# Altium integrated library PCIC.IntLib: 47 symbols
Pins are listed as number, name and electrical type; pins without a type are passive.

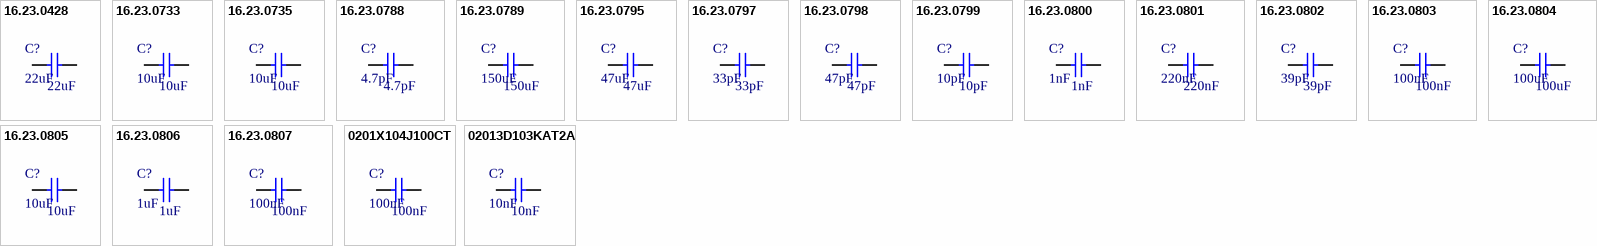
[diagram p0: symbols 16.23.0428 to 02013D103KAT2A]

## 16.23.0428
designator C?, comment 22uF
CAPACITOR CERAMICO MULTICAMADAS 22uF 16V X5R 20% SMD 0805; Category: Multilayer Ceramic Capacitors; Price: 1= 10= 100= 1000= (USD); Library Ref: Capacitor; Package / Case: 0805 (2012 mm); Size / Dimension: L x  W x  H; Tolerance: 20%; Voltage - Rated: 16V; ESR: -; Dieletric: X5R; ComponentLink1Description: Datasheet; ComponentLink2Description: Mouser Link; Value: 22uF
footprint C0805
pins: 1, 2

## 16.23.0733
designator C?, comment 10uF
CAPACITOR CERAMICO MULTICAMADAS 10uF 25V X5R 20% SMD 0603; Category: Multilayer Ceramic Capacitors; Price: 1= 10= 100= 1000= (USD); Library Ref: Capacitor; Package / Case: 0603 (1608 mm); Size / Dimension: L x  W x  H; Tolerance: 20%; Voltage - Rated: 25V; ESR: -; Dieletric: X5R; ComponentLink1Description: Datasheet; ComponentLink2Description: Mouser Link; Value: 10uF
footprint C0603
pins: 1, 2

## 16.23.0735
designator C?, comment 10uF
CAPACITOR CERAMICO MULTICAMADAS 10uF 25V X5R 10% SMD 0805; Category: Multilayer Ceramic Capacitors; Price: 1= 10= 100= 1000= (USD); Library Ref: Capacitor; Package / Case: 0805 (2012 mm); Size / Dimension: L x  W x  H; Tolerance: 10%; Voltage - Rated: 25V; ESR: -; Dieletric: X5R; ComponentLink1Description: Datasheet; ComponentLink2Description: Mouser Link; Value: 10uF
footprint C0805
pins: 1, 2

## 16.23.0788
designator C?, comment 4.7pF
CAPACITOR CERAMICO MULTICAMADA 4.7PF 50V C0G/NP0 0402; Category: Multilayer Ceramic Capacitors; Price: 1= 10= 100= 1000= (USD); Library Ref: Capacitor; Package / Case: 0402 (1005 mm); Size / Dimension: L x  W x  H; Tolerance: -; Voltage - Rated: 50V; ESR: -; Dieletric: C0G/NP0; ComponentLink1Description: Datasheet; ComponentLink2Description: Mouser Link; Value: 4.7pF
footprint C0402
pins: 1, 2

## 16.23.0789
designator C?, comment 150uF
CAPACITOR CERAMICO 150uF 20% 6.3V X5R SMD 1206; Category: Ceramic Capacitor; Price: 1= 10= 100= 1000= (USD); Library Ref: Capacitor; Package / Case: 1206 (3216 mm); Size / Dimension: L x  W x  H; Tolerance: 20%; Voltage - Rated: 6.3V; ESR: -; Dieletric: X5R; ComponentLink1Description: Datasheet; ComponentLink2Description: Mouser Link; Value: 150uF
footprint C1206
pins: 1, 2

## 16.23.0795
designator C?, comment 47uF
CAPACITOR CERAMICO 47uF 6.3V X5R 10% SMD 1206; Category: Ceramic Capacitor; Price: 1= 10= 100= 1000= (USD); Library Ref: Capacitor; Package / Case: 1206 (3216 mm); Size / Dimension: L x  W x  H; Tolerance: 10%; Voltage - Rated: 6.3V; ESR: -; Dieletric: X5R; ComponentLink1Description: Datasheet; ComponentLink2Description: Mouser Link; Value: 47uF
footprint C1206
pins: 1, 2

## 16.23.0797
designator C?, comment 33pF
CAPACITOR CERAMICO 33pF 10V 5% C0G SMD 0201; Category: Ceramic Capacitor; Price: 1= 10= 100= 1000= (USD); Library Ref: Capacitor; Package / Case: 0201 (0603 mm); Size / Dimension: L x  W x  H; Tolerance: 5%; Voltage - Rated: 10V; ESR: -; Dieletric: C0G; ComponentLink1Description: Datasheet; ComponentLink2Description: Mouser Link; Value: 33pF
footprint C0201
pins: 1, 2

## 16.23.0798
designator C?, comment 47pF
CAPACITOR CERAMICO 47pF 10V 5% C0G SMD 0201; Category: Ceramic Capacitor; Price: 1= 10= 100= 1000= (USD); Library Ref: Capacitor; Package / Case: 0201 (0603 mm); Size / Dimension: L x  W x  H; Tolerance: 5%; Voltage - Rated: 10V; ESR: -; Dieletric: C0G; ComponentLink1Description: Datasheet; ComponentLink2Description: Mouser Link; Value: 47pF
footprint C0201
pins: 1, 2

## 16.23.0799
designator C?, comment 10pF
CAPACITOR CERAMICO 10pF 25V 5% C0G SMD 0201; Category: Ceramic Capacitor; Price: 1= 10= 100= 1000= (USD); Library Ref: Capacitor; Package / Case: 0201 (0603 mm); Size / Dimension: L x  W x  H; Tolerance: 5%; Voltage - Rated: 25V; ESR: -; Dieletric: C0G; ComponentLink1Description: Datasheet; ComponentLink2Description: Mouser Link; Value: 10pF
footprint C0201
pins: 1, 2

## 16.23.0800
designator C?, comment 1nF
CAPACITOR CERAMICO 1nF 25V 5% X7R SMD 0201; Category: Ceramic Capacitor; Price: 1= 10= 100= 1000= (USD); Library Ref: Capacitor; Package / Case: 0201 (0603 mm); Size / Dimension: L x  W x  H; Tolerance: 5%; Voltage - Rated: 25V; ESR: -; Dieletric: X7R; ComponentLink1Description: Datasheet; ComponentLink2Description: Mouser Link; Value: 1nF
footprint C0201
pins: 1, 2

## 16.23.0801
designator C?, comment 220nF
CAPACITOR CERAMICO 220nF 16V 10% X5R SMD 0201; Category: Ceramic Capacitor; Price: 1= 10= 100= 1000= (USD); Library Ref: Capacitor; Package / Case: 0201 (0603 mm); Size / Dimension: L x  W x  H; Tolerance: 10%; Voltage - Rated: 16V; ESR: -; Dieletric: X5R; ComponentLink1Description: Datasheet; ComponentLink2Description: Mouser Link; Value: 220nF
footprint C0201
pins: 1, 2

## 16.23.0802
designator C?, comment 39pF
CAPACITOR CERAMICO 39pF 100V 5% C0G SMD 0201; Category: Ceramic Capacitor; Price: 1= 10= 100= 1000= (USD); Library Ref: Capacitor; Package / Case: 0201 (0603 mm); Size / Dimension: L x  W x  H; Tolerance: 5%; Voltage - Rated: 100V; ESR: -; Dieletric: C0G; ComponentLink1Description: Datasheet; ComponentLink2Description: Mouser Link; Value: 39pF
footprint C0201
pins: 1, 2

## 16.23.0803
designator C?, comment 100nF
CAPACITOR CERAMICO 100nF 16V 10% X5R SMD 0201; Category: Ceramic Capacitor; Price: 1= 10= 100= 1000= (USD); Library Ref: Capacitor; Package / Case: 0201 (0603 mm); Size / Dimension: L x  W x  H; Tolerance: 10%; Voltage - Rated: 16V; ESR: -; Dieletric: X5R; ComponentLink1Description: Datasheet; ComponentLink2Description: Mouser Link; Value: 100nF
footprint C0201
pins: 1, 2

## 16.23.0804
designator C?, comment 100uF
CAPACITOR CERAMICO 100uF 6.3V 10% X5R SMD 1206; Category: Ceramic Capacitor; Price: 1= 10= 100= 1000= (USD); Library Ref: Capacitor; Package / Case: 1206 (3216 mm); Size / Dimension: L x  W x  H; Tolerance: 10%; Voltage - Rated: 6.3V; ESR: -; Dieletric: X5R; ComponentLink1Description: Datasheet; ComponentLink2Description: Mouser Link; Value: 100uF
footprint C1206
pins: 1, 2

## 16.23.0805
designator C?, comment 10uF
CAPACITOR CERAMICO MULTICAMADAS 10uF 10V X5R 10% SMD 0603; Category: Multilayer Ceramic Capacitors; Price: 1= 10= 100= 1000= (USD); Library Ref: Capacitor; Package / Case: 0603 (1608 mm); Size / Dimension: L x  W x  H; Tolerance: 10%; Voltage - Rated: 10V; ESR: -; Dieletric: X5R; ComponentLink1Description: Datasheet; ComponentLink2Description: Mouser Link; Value: 10uF
footprint C0603
pins: 1, 2

## 16.23.0806
designator C?, comment 1uF
CAPACITOR CERAMICO MULTICAMADAS 1uF 10V X5R 20% SMD 0201; Category: Multilayer Ceramic Capacitors; Price: 1= 10= 100= 1000= (USD); Library Ref: Capacitor; Package / Case: 0201 (0603 mm); Size / Dimension: L x  W x  H; Tolerance: -; Voltage - Rated: 10V; ESR: -; Dieletric: X5R; ComponentLink1Description: Datasheet; ComponentLink2Description: Mouser Link; Value: 1uF
footprint C0201
pins: 1, 2

## 16.23.0807
designator C?, comment 100nF
CAPACITOR CERAMICO MULTICAMADAS 100nF 50V X7R 10% SMD 0402; Category: Multilayer Ceramic Capacitors; Price: 1= 10= 100= 1000= (USD); Library Ref: Capacitor; Package / Case: 0402 (1005 mm); Size / Dimension: L x  W x  H; Tolerance: 10%; Voltage - Rated: 50V; ESR: -; Dieletric: X7R; ComponentLink1Description: Datasheet; ComponentLink2Description: Mouser Link; Value: 100nF
footprint C0402
pins: 1, 2

## 0201X104J100CT
designator C?, comment 100nF
CAPACITOR CERAMICO MULTICAMADAS 100nF 10V 5% X5R SMD 0201; Manufacturer: Walsin; Part Number: 0201X104J100CT; Library Control - Checked Footprint: Yes; Library Control - Last Project that Used: SIBB; Library Control - Person that Checked Footprint: Stéfany; Supplier 1: Mouser; Category: Multilayer Ceramic Capacitors; Price: 1=0.11 10=0.042 100=0.019 1000=0.01 (USD); Library Ref: Capacitor; Operating Temperature: -55 C ~ 85 C; Package / Case: 0201 (0603 mm); Size / Dimension: 0.6 mm L x 0.3 mm W x 0.3 mm H; Tolerance: 5%; Voltage - Rated: 10V; ESR: -; Dieletric: X5R; Library Control - Checked Schematic: Yes; Library Control - Last Update: 14/07/2022 - 17:13; Library Control - Person that Checked Schematic: Stéfany; Library Control - Person that did the Last Update Footprint: Stéfany; Library Control - Person that did the Last Update Schematic: Stéfany; ComponentLink1Description: Datasheet; ComponentLink1URL: https://www.mouser.com/datasheet/2/210/WTC_MLCC_General_Purpose-1534899.pdf; ComponentLink2Description: Mouser Link; ComponentLink2URL: https://www.mouser.com/ProductDetail/Walsin/0201X104J100CT?qs=u16ybLDytRbh6baQ73s%252ByQ%3D%3D; Value: 100nF
footprint C0201
pins: 1, 2

## 02013D103KAT2A
designator C?, comment 10nF
CAPACITOR CERAMICO MULTICAMADAS 10nF 25V 10% X5R SMD 0201; Manufacturer: Kyocera AVX; Part Number: 02013D103KAT2A; Library Control - Checked Footprint: Yes; Library Control - Last Project that Used: SIBB; Library Control - Person that Checked Footprint: Stéfany; Supplier 1: Mouser; Category: Multilayer Ceramic Capacitors; Price: 1=0.10 10=0.038 100=0.017 1000=0.01 (USD); Library Ref: Capacitor; Operating Temperature: -55 C ~ +85 C; Package / Case: 0201 (0603 mm); Size / Dimension: 0.6 mm L x 0.3 mm W x 0.3 mm H; Tolerance: 10%; Voltage - Rated: 25V; ESR: -; Dieletric: X5R; Library Control - Checked Schematic: Yes; Library Control - Last Update: 14/07/2022 - 21:33; Library Control - Person that Checked Schematic: Stéfany; Library Control - Person that did the Last Update Footprint: Stéfany; Library Control - Person that did the Last Update Schematic: Stéfany; ComponentLink1Description: Datasheet; ComponentLink1URL: https://www.mouser.com/datasheet/2/40/AVX_cx5r_776519-1853698.pdf; ComponentLink2Description: Mouser Link; ComponentLink2URL: https://www.mouser.com/ProductDetail/Kyocera-AVX/02013D103KAT2A?qs=%252BdQmOuGyFcGMM%2FJpFHBLEw%3D%3D; Value: 10nF
footprint C0201
pins: 1, 2


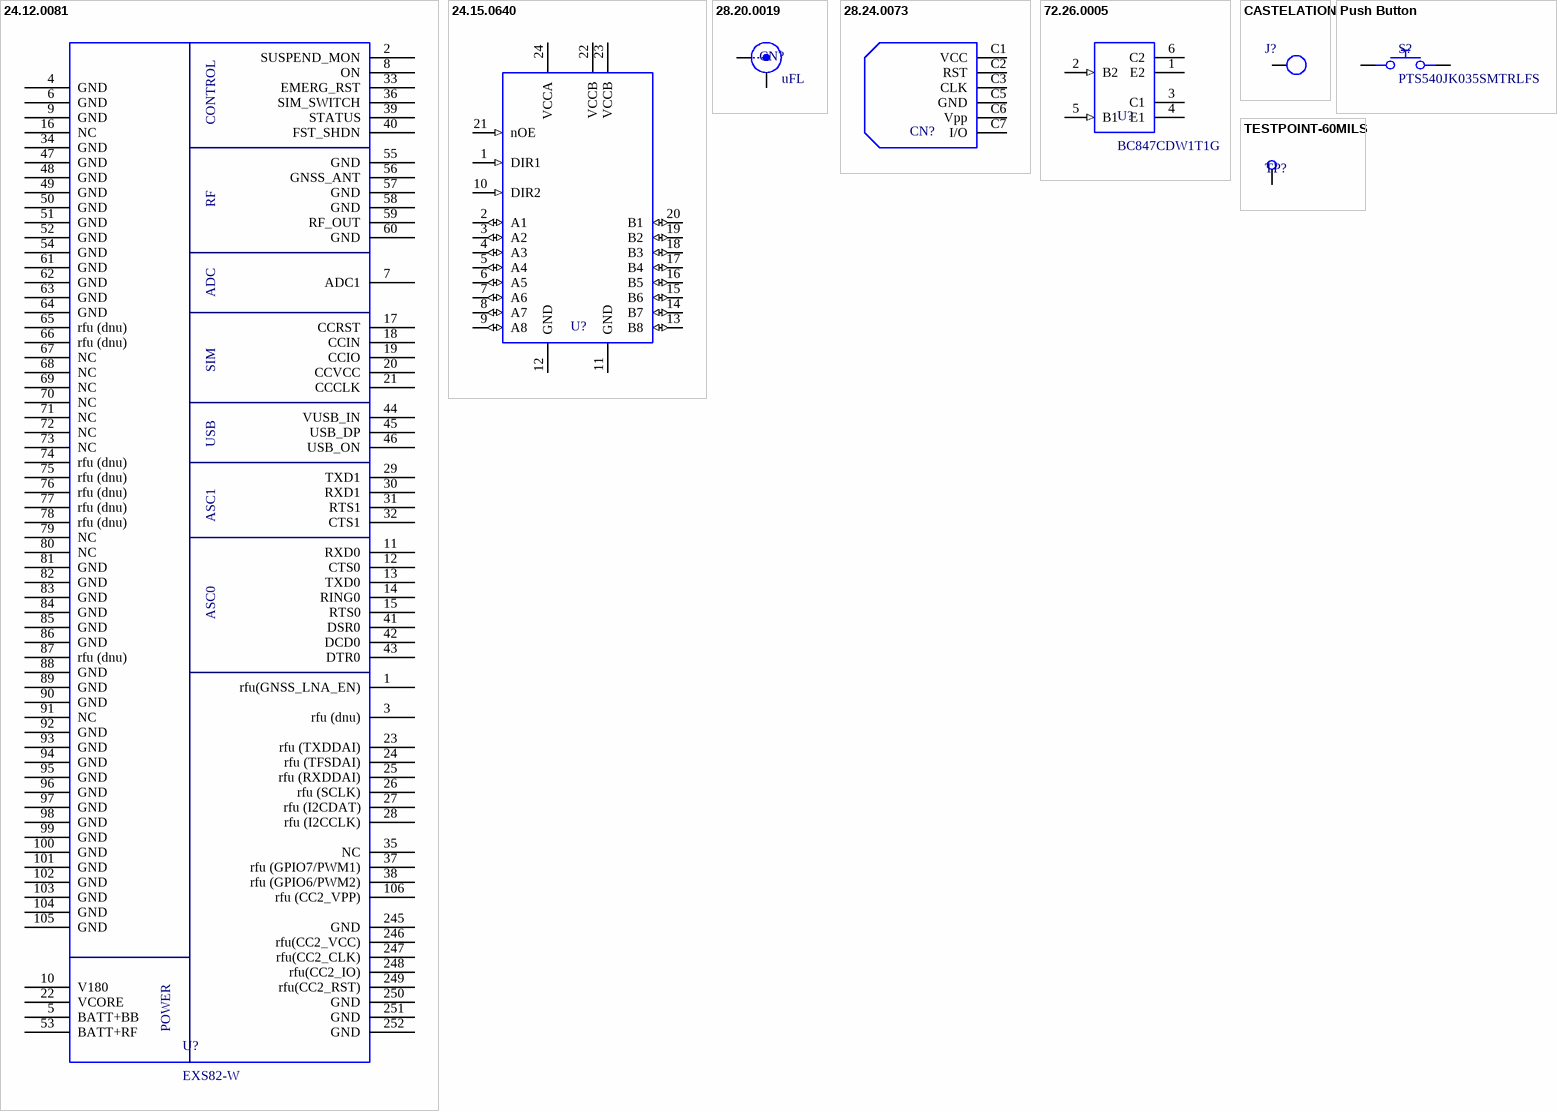
[diagram p1: symbols 24.12.0081 to TESTPOINT-60MILS]

## 24.12.0081
designator U?, comment EXS82-W
CIRCUITO INTEGRADO DIG MOD COMUNICACAO MULTI REDES EXS82-W; Manufacturer: THALES; ComponentLink1Description: Datasheet; ComponentLink1URL: https://drive.google.com/file/d/1VP1ofSdQ22rLwBKP-9rS1Zx3N4SnHXcM/view?usp=sharing; Supplier 1: THALES; Part Number: EXS82-W; Category: IC - Communication Module; Supplier Part Number 1: EXS82-W; Library Ref: Diversos
footprint EXS82W
pins: 1 rfu(GNSS_LNA_EN), 2 SUSPEND_MON, 3 rfu (dnu), 4 GND, 5 BATT+BB, 6 GND, 7 ADC1, 8 ON, 9 GND, 10 V180, 11 RXD0, 12 CTS0, 13 TXD0, 14 RING0, 15 RTS0, 16 NC, 17 CCRST, 18 CCIN, 19 CCIO, 20 CCVCC, 21 CCCLK, 22 VCORE, 23 rfu (TXDDAI), 24 rfu (TFSDAI), 25 rfu (RXDDAI), 26 rfu (SCLK), 27 rfu (I2CDAT), 28 rfu (I2CCLK), 29 TXD1, 30 RXD1, 31 RTS1, 32 CTS1, 33 EMERG_RST, 34 GND, 35 NC, 36 SIM_SWITCH, 37 rfu (GPIO7/PWM1), 38 rfu (GPIO6/PWM2), 39 STATUS, 40 FST_SHDN, 41 DSR0, 42 DCD0, 43 DTR0, 44 VUSB_IN, 45 USB_DP, 46 USB_ON, 47 GND, 48 GND, 49 GND, 50 GND, 51 GND, 52 GND, 53 BATT+RF, 54 GND, 55 GND, 56 GNSS_ANT, 57 GND, 58 GND, 59 RF_OUT, 60 GND, 61 GND, 62 GND, 63 GND, 64 GND, 65 rfu (dnu), 66 rfu (dnu), 67 NC, 68 NC, 69 NC, 70 NC, 71 NC, 72 NC, 73 NC, 74 rfu (dnu), 75 rfu (dnu), 76 rfu (dnu), 77 rfu (dnu), 78 rfu (dnu), 79 NC, 80 NC, 81 GND, 82 GND, 83 GND, 84 GND, 85 GND, 86 GND, 87 rfu (dnu), 88 GND, 89 GND, 90 GND, 91 NC, 92 GND, 93 GND, 94 GND, 95 GND, 96 GND, 97 GND, 98 GND, 99 GND, 100 GND, 101 GND, 102 GND, 103 GND, 104 GND, 105 GND, 106 rfu (CC2_VPP), 245 GND, 246 rfu(CC2_VCC), 247 rfu(CC2_CLK), 248 rfu(CC2_IO), 249 rfu(CC2_RST), 250 GND, 251 GND, 252 GND
text: CONTROL; RF; ADC; SIM; USB; ASC1; ASC0; POWER

## 24.15.0640
designator U?, comment SN74AXC8T245RJWR  (value not drawn)
CID CONVERSOR NIVEL ALIMENTACAO DUPLA DIRECAO CONTROLADA 8 BITS 0.65V - 3.6V; Manufacturer: Texas Instruments; Number of Elements: 2; Number of Bits per Element: 8; Output Type: 3-State; Current - Output High, Low: 12mA, 12mA; Voltage - Supply: 0.65V ~ 3.6V; ComponentLink1Description: Datasheet; ComponentLink1URL: https://www.ti.com/lit/ds/symlink/sn74axc8t245.pdf?HQS=dis-dk-null-digikeymode-dsf-pf-null-wwe&ts=1658503114132; ComponentLink2Description: Mouser Link; Part Number: SN74AXC8T245RJWR; Price: 1=, 10=, 100=, 500= (USD); Input Type: -; Library Ref: Diversos; Operating Temperature: -40 C ~ 125 C; Package / Case: UFQFN-24
footprint UFQFN-24
pins: 1 DIR1 (in), 2 A1 (io), 3 A2 (io), 4 A3 (io), 5 A4 (io), 6 A5 (io), 7 A6 (io), 8 A7 (io), 9 A8 (io), 10 DIR2 (in), 11 GND (power), 12 GND (power), 13 B8 (io), 14 B7 (io), 15 B6 (io), 16 B5 (io), 17 B4 (io), 18 B3 (io), 19 B2 (io), 20 B1 (io), 21 nOE (in), 22 VCCB (power), 23 VCCB (power), 24 VCCA (power)

## 28.20.0019
designator CN?, comment uFL
CONECTOR MICRO COAXIAL 50 OHMS SMD; ComponentLink1Description: Datasheet; Price: 1=, 10=, 100=, 500= (USD); Library Ref: Diversos; Value: uFL
footprint CONECTOR-MICRO-COAXIAL-SMD
pins: 1 SIG, 2 GND (power), 3 GND (power)

## 28.24.0073
designator CN?, comment SIMCARD-6X6  (value not drawn)
CONECTOR FM NANO-D 6 VIAS - BRONZE; ComponentLink1Description: Datasheet; Price: 1=, 10=, 100=, 500= (USD); Library Ref: Diversos; Value: SIMCARD-6X6
footprint CONECTOR-NANO-6_VIAS
pins: C1 VCC, C2 RST, C3 CLK, C5 GND, C6 Vpp, C7 I/O

## 72.26.0005
designator U?, comment BC847CDW1T1G
TRANSISTOR DUPLO NPN BC847 SMD SOT-363; Manufacturer: ON Semiconductor; Current - Collector (Ic) (Max): 100mA; Voltage - Collector Emitter Breakdown (Max): 45V; Vce Saturation (Max) @ Ib, Ic: 600mV @ 5mA, 100mA; Current - Collector Cutoff (Max): 15nA (ICBO); DC Current Gain (hFE) (Min) @ Ic, Vce: 420 @ 2mA, 5V; Power Dissipation (Max): 380mW; Frequency - Transition: 100MHz; Transistor Type: 2 NPN (Dual); ComponentLink1Description: Datasheet; ComponentLink1URL: https://www.onsemi.com/pdf/datasheet/bc846bdw1t1-d.pdf; ComponentLink2Description: Mouser Link; Part Number: BC847CDW1T1G; Price: 1=, 10=, 100= (USD); Mounting Type: Surface Mount; Operating Temperature (Min - Máx): -55 C ~ 150 C; Library Ref: Diversos; Packaging: SOT-363
footprint SOT-363
pins: 1 E2 (oe), 2 B2 (in), 3 C1 (oc), 4 E1 (oe), 5 B1 (in), 6 C2 (oc)

## CASTELATION
designator J?  (value not drawn)
CONECTOR CASTELATION; ComponentLink1Description: Datasheet; Price: 1=, 10=, 100=, 500= (USD); Library Ref: Diversos; Value: CASTELATION
footprint CASTELATION
pins: 1

## Push Button
designator S?, comment PTS540JK035SMTRLFS
TACTILE SWITCH SPST 0.05A 12VDC SMD; Manufacturer: C&K Switches; Voltage Rating (DC): 12V; Current Rating: 50mA; Switch Function: Off-On; Operating Force: 230gf; Library Control - Checked Footprint: Yes; Library Control - Person that Checked Schematic: Nícolas; Bounce time (MAX): 10ms; ComponentLink1Description: Datasheet; ComponentLink1URL: https://www.mouser.com/datasheet/2/60/pts540-1841856.pdf; ComponentLink2Description: Mouser Link; ComponentLink2URL: https://www.mouser.com/ProductDetail/CK/PTS540JK035SMTRLFS?qs=nsc5Ve2%252BdoHscnqTjIh87g%3D%3D; Supplier 1: Mouser; Part Number: PTS540JK035SMTRLFS; Category: Tactile Switches; Pricing 1: 1=0,18, 10=0,174, 100=0,15, 500=0,122, 1000=0,103 (USD); Throw Configuration: SPST; Orientation: Straight; Supplier Part Number 1: 611-PTS540JK035SMTRL; Library Ref: Diversos; Library Control - Checked Schematic: Yes; Library Control - Person that Checked Footprint: Nícolas; Library Control - Person that did the Last Update Schematic: Nícolas
footprint PUSH_BUTTON
pins: 1, 2

## TESTPOINT-60MILS
designator TP?  (value not drawn)
PONTO DE TESTE PARA CAMA DE PREGO; ComponentLink1Description: Datasheet; Price: 1=, 10=, 100=, 500= (USD); Library Ref: Diversos; Value: TESTPOINT-60MILS
footprint TESTPOINT-60MILS
pins: 1 TP


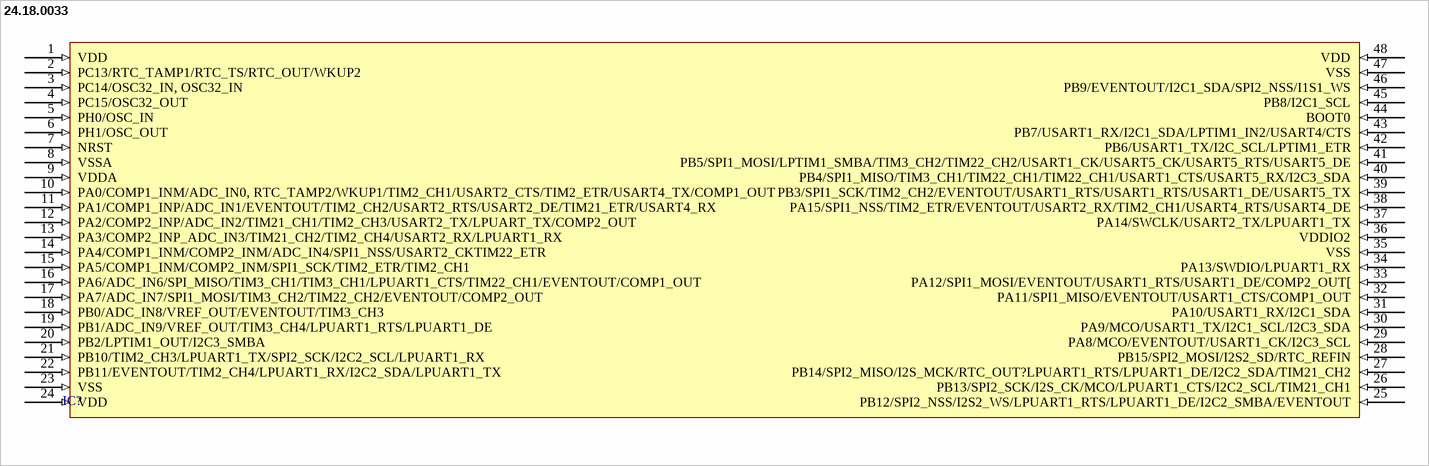
[diagram p2: symbol 24.18.0033]

## 24.18.0033
designator IC?
IC MCU 32-BIT 192KB FLASH ARM LQFP-48; Category: ARM-Microcontrollers; Price: 1=, 10=, 100= (USD); Package / Case: LQFP-48; Program Memory Type: Flash; Program Memory Size: 192 KB; Core Size: 32-bit; ComponentLink1Description: Datasheet; ComponentLink2Description: Mouser Link
footprint LQFP-48
pins: 1 VDD (in), 2 PC13/RTC_TAMP1/RTC_TS/RTC_OUT/WKUP2 (in), 3 PC14/OSC32_IN, OSC32_IN (in), 4 PC15/OSC32_OUT (in), 5 PH0/OSC_IN (in), 6 PH1/OSC_OUT (in), 7 NRST (in), 8 VSSA (in), 9 VDDA (in), 10 PA0/COMP1_INM/ADC_IN0, RTC_TAMP2/WKUP1/TIM2_CH1/USART2_CTS/TIM2_ETR/USART4_TX/COMP1_OUT (in), 11 PA1/COMP1_INP/ADC_IN1/EVENTOUT/TIM2_CH2/USART2_RTS/USART2_DE/TIM21_ETR/USART4_RX (in), 12 PA2/COMP2_INP/ADC_IN2/TIM21_CH1/TIM2_CH3/USART2_TX/LPUART_TX/COMP2_OUT (in), 13 PA3/COMP2_INP_ADC_IN3/TIM21_CH2/TIM2_CH4/USART2_RX/LPUART1_RX (in), 14 PA4/COMP1_INM/COMP2_INM/ADC_IN4/SPI1_NSS/USART2_CKTIM22_ETR (in), 15 PA5/COMP1_INM/COMP2_INM/SPI1_SCK/TIM2_ETR/TIM2_CH1 (in), 16 PA6/ADC_IN6/SPI_MISO/TIM3_CH1/TIM3_CH1/LPUART1_CTS/TIM22_CH1/EVENTOUT/COMP1_OUT (in), 17 PA7/ADC_IN7/SPI1_MOSI/TIM3_CH2/TIM22_CH2/EVENTOUT/COMP2_OUT (in), 18 PB0/ADC_IN8/VREF_OUT/EVENTOUT/TIM3_CH3 (in), 19 PB1/ADC_IN9/VREF_OUT/TIM3_CH4/LPUART1_RTS/LPUART1_DE (in), 20 PB2/LPTIM1_OUT/I2C3_SMBA (in), 21 PB10/TIM2_CH3/LPUART1_TX/SPI2_SCK/I2C2_SCL/LPUART1_RX (in), 22 PB11/EVENTOUT/TIM2_CH4/LPUART1_RX/I2C2_SDA/LPUART1_TX (in), 23 VSS (in), 24 VDD (in), 25 PB12/SPI2_NSS/I2S2_WS/LPUART1_RTS/LPUART1_DE/I2C2_SMBA/EVENTOUT (in), 26 PB13/SPI2_SCK/I2S_CK/MCO/LPUART1_CTS/I2C2_SCL/TIM21_CH1 (in), 27 PB14/SPI2_MISO/I2S_MCK/RTC_OUT?LPUART1_RTS/LPUART1_DE/I2C2_SDA/TIM21_CH2 (in), 28 PB15/SPI2_MOSI/I2S2_SD/RTC_REFIN (in), 29 PA8/MCO/EVENTOUT/USART1_CK/I2C3_SCL (in), 30 PA9/MCO/USART1_TX/I2C1_SCL/I2C3_SDA (in), 31 PA10/USART1_RX/I2C1_SDA (in), 32 PA11/SPI1_MISO/EVENTOUT/USART1_CTS/COMP1_OUT (in), 33 PA12/SPI1_MOSI/EVENTOUT/USART1_RTS/USART1_DE/COMP2_OUT[ (in), 34 PA13/SWDIO/LPUART1_RX (in), 35 VSS (in), 36 VDDIO2 (in), 37 PA14/SWCLK/USART2_TX/LPUART1_TX (in), 38 PA15/SPI1_NSS/TIM2_ETR/EVENTOUT/USART2_RX/TIM2_CH1/USART4_RTS/USART4_DE (in), 39 PB3/SPI1_SCK/TIM2_CH2/EVENTOUT/USART1_RTS/USART1_RTS/USART1_DE/USART5_TX (in), 40 PB4/SPI1_MISO/TIM3_CH1/TIM22_CH1/TIM22_CH1/USART1_CTS/USART5_RX/I2C3_SDA (in), 41 PB5/SPI1_MOSI/LPTIM1_SMBA/TIM3_CH2/TIM22_CH2/USART1_CK/USART5_CK/USART5_RTS/USART5_DE (in), 42 PB6/USART1_TX/I2C_SCL/LPTIM1_ETR (in), 43 PB7/USART1_RX/I2C1_SDA/LPTIM1_IN2/USART4/CTS (in), 44 BOOT0 (in), 45 PB8/I2C1_SCL (in), 46 PB9/EVENTOUT/I2C1_SDA/SPI2_NSS/I1S1_WS (in), 47 VSS (in), 48 VDD (in)


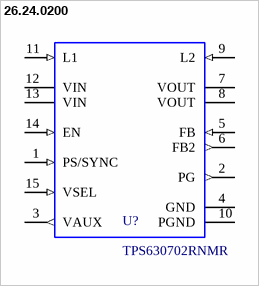
[diagram p3: symbol 26.24.0200]

## 26.24.0200
designator U?, comment TPS630702RNMR
IC REG SWITCHING 2A 2.5V TO 9V; Manufacturer: Texas Instruments; Output Type: Regulated; Number of Regulators: 1; Voltage - Input (Max): 16V; Library Control - Checked Footprint: Yes; Library Control - Person that Checked Footprint: Nícolas; Library Control - Person that did the Last Update Footprint: Raquel; Voltage - Input (Min): 2V; Frequency - Switching: 2.4MHz; Part Number: TPS630702RNMR; Library Ref: Voltage Regulator; Category: Switching Voltage Regulator; Price: 1=, 10=, 100= (USD); Package/ Case: VQFN-15; Operating Temperature: -40 C ~ 125 C; Max Power Dissipation: -; Voltage - Output (Min/Fixed): 2.5V; Voltage - Dropout (Max): -; Library Control - Checked Schematic: Yes; Library Control - Last Update: 13/06/21; Library Control - Person that Checked Schematic: Nícolas; Library Control - Person that did the Last Update Schematic: Raquel; Voltage - Output (Max): 9V; Current - Output: 2A; Current - Operating Supply: -; ComponentLink1Description: Datasheet; ComponentLink1URL: https://www.ti.com/general/docs/suppproductinfo.tsp?distId=26&gotoUrl=https://www.ti.com/lit/gpn/tps63070; ComponentLink2Description: Mouser Link
footprint VQFN-15
pins: 1 PS/SYNC (in), 2 PG (out), 3 VAUX (out), 4 GND, 5 FB (in), 6 FB2 (out), 7 VOUT (power), 8 VOUT (power), 9 L2 (in), 10 PGND (power), 11 L1 (in), 12 VIN (power), 13 VIN (power), 14 EN (in), 15 VSEL (in)


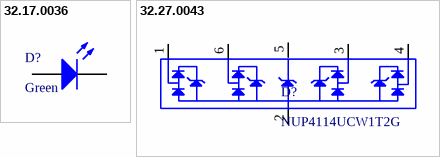
[diagram p4: symbols 32.17.0036 to 32.27.0043]

## 32.17.0036
designator D?, comment Green
LED VERDE 0603 SMD; Category: Standard LEDs - SMD; Price: 1=, 50=, 100= (USD); Package / Case: 0603; Color: Green; Library Ref: Diodo/Led; ComponentLink1Description: Mouser Link; ComponentLink2Description: Datasheet Link
footprint LED_0603
pins: A, K

## 32.27.0043
designator D?, comment NUP4114UCW1T2G
DIODO TVS 10V SC-88-6; Voltage - Forward (Vf) (Max) @ If: 10V @ 12A; Voltage - DC Reverse (Vr) (Max): 5.5V; Part Number: NUP4114UCW1T2G; Category: ESD Suppressors / TVS Diodes; Price: 1=, 10=, 100= (USD); Package / Case: SC-88-6; Current - Average Rectified (Io): -; Operating Temperature: -40 C ~ 125 C; Diode Type: TVS; Library Ref: Diodo/Led; ComponentLink1Description: Datasheet; ComponentLink1URL: https://br.mouser.com/datasheet/2/308/1/NUP4114_D-2319369.pdf; ComponentLink2Description: Mouser Link
footprint DIODO_SC-88-6
pins: 1, 2 (power), 3, 4, 5 (power), 6


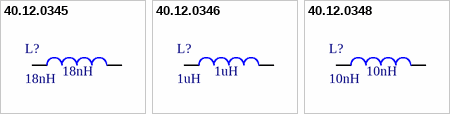
[diagram p5: symbols 40.12.0345 to 40.12.0348]

## 40.12.0345
designator L?, comment 18nH
INDUTOR FIXO 18nH 370mA 270mOHM SMD 0402; Category: Fixed Inductors; Current Rating (Amps): 370mA; DC Resistance (DCR): 270mOHM; Library Ref: Inductor; Package / Case: 0402 (1005 mm); Price: 1=; 10=; 50= (USD); Q @ Freq: -; Size / Dimension: L x W x H; ToleranceParameter 21: -; ComponentLink1Description: Datasheet; ComponentLink2Description: Mouser link; Value: 18nH
footprint L0402
pins: 1, 2

## 40.12.0346
designator L?, comment 1uH
INDUTOR FIXO 1uH 20% 5A 36mOHM SMD 1008; Category: Fixed Inductors; Current Rating (Amps): 5A; DC Resistance (DCR): 36mOHM; Library Ref: Inductor; Package / Case: 1008 (2520 mm); Price: 1=; 10=; 50= (USD); Q @ Freq: -; Size / Dimension: L x W x H; ToleranceParameter 21: 20%; ComponentLink1Description: Datasheet; ComponentLink2Description: Mouser link; Value: 1uH
footprint L1008
pins: 1, 2

## 40.12.0348
designator L?, comment 10nH
INDUTOR FIXO 10nH 3% 500mA 260mOHM SMD 0402; Category: Fixed Inductors; Current Rating (Amps): 500mA; DC Resistance (DCR): 260mOHM; Library Ref: Inductor; Package / Case: 0402 (1005 mm); Price: 1=; 10=; 50= (USD); Q @ Freq: -; Size / Dimension: L x W x H; ToleranceParameter 21: 3%; ComponentLink1Description: Datasheet; ComponentLink2Description: Mouser link; Value: 10nH
footprint L0402
pins: 1, 2


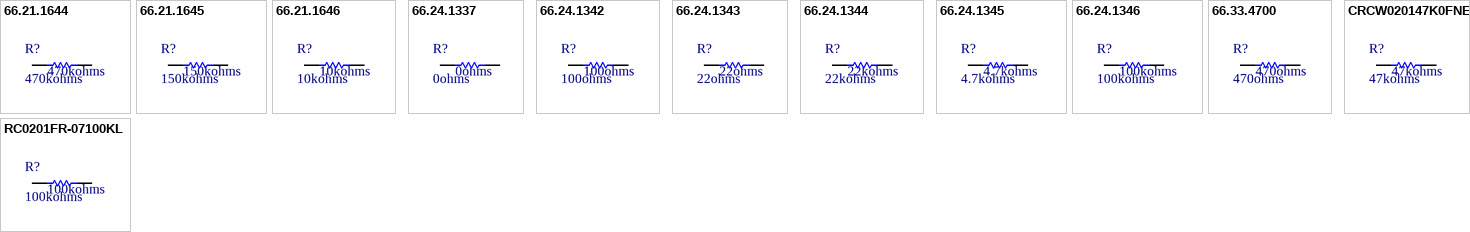
[diagram p6: symbols 66.21.1644 to RC0201FR-07100KL]

## 66.21.1644
designator R?, comment 470kohms
RESISTOR THICK FILM 470k OHMS 50mW 25V 1% SMD 0201; Category: Thick Film Resistors - SMD; Price: 1=, 10=, 100 =, 1000= (USD); Package / Case: 0201 (0603 metric); Tolerance: 1%; Power Rating: 50mW; Voltage Rating: 25V; Library Ref: Resistor; Resistor Type: Fixo; Size / Dimension: L x W x H; ComponentLink1Description: Mouser Link; ComponentLink2Description: Datasheet Link; Value: 470kohms
footprint R0201
pins: 1, 2

## 66.21.1645
designator R?, comment 150kohms
RESISTOR THICK FILM 150k OHMS 50mW 25V 1% SMD 0201; Category: Thick Film Resistors - SMD; Price: 1=, 10=, 100 =, 1000= (USD); Package / Case: 0201 (0603 metric); Tolerance: 1%; Power Rating: 50mW; Voltage Rating: 25V; Library Ref: Resistor; Resistor Type: Fixo; Size / Dimension: L x W x H; ComponentLink1Description: Mouser Link; ComponentLink2Description: Datasheet Link; Value: 150kohms
footprint R0201
pins: 1, 2

## 66.21.1646
designator R?, comment 10kohms
RESISTOR THICK FILM 10k OHMS 25V 50mW 1% SMD 0201; Category: Thick Film Resistors - SMD; Price: 1=, 10=, 100 =, 1000= (USD); Package / Case: 0201 (0603 metric); Tolerance: 1%; Power Rating: 50mW; Voltage Rating: 25V; Library Ref: Resistor; Resistor Type: Fixo; Size / Dimension: L x W x H; ComponentLink1Description: Mouser Link; ComponentLink2Description: Datasheet Link; Value: 10kohms
footprint R0201
pins: 1, 2

## 66.24.1337
designator R?, comment 0ohms
RESISTOR THICK FILM 0 OHMS 0,1W SMD 0603; Power Rating: 0,1W; Category: Thick Film Resistors - SMD; Price: 1=, 10=, 100 =, 1000= (USD); Package / Case: 0603 (1608 metric); Tolerance: -; Voltage Rating: -; Library Ref: Resistor; Resistor Type: Fixo; Size / Dimension: L x W x H; ComponentLink1Description: Mouser Link; ComponentLink2Description: Datasheet Link; Value: 0ohms
footprint R0603
pins: 1, 2

## 66.24.1342
designator R?, comment 100ohms
RESISTOR THICK FILM 100 OHMS 50mW 1% SMD 0201; Category: Thick Film Resistors - SMD; Price: 1=, 10=, 100 =, 1000= (USD); Package / Case: 0201 (0603 metric); Tolerance: 1%; Power Rating: 50mW; Voltage Rating: -; Library Ref: Resistor; Resistor Type: Fixo; Size / Dimension: L x W x H; ComponentLink1Description: Mouser Link; ComponentLink2Description: Datasheet Link; Value: 100ohms
footprint R0201
pins: 1, 2

## 66.24.1343
designator R?, comment 22ohms
RESISTOR THICK FILM 22 OHMS 50mW 1% SMD 0201; Category: Thick Film Resistors - SMD; Price: 1=, 10=, 100 =, 1000= (USD); Package / Case: 0201 (0603 metric); Tolerance: 1%; Power Rating: 50mW; Voltage Rating: -; Library Ref: Resistor; Resistor Type: Fixo; Size / Dimension: L x W x H; ComponentLink1Description: Mouser Link; ComponentLink2Description: Datasheet Link; Value: 22ohms
footprint R0201
pins: 1, 2

## 66.24.1344
designator R?, comment 22kohms
RESISTOR THICK FILM 22K OHMS 50mW 1% SMD 0201; Category: Thick Film Resistors - SMD; Price: 1=, 10=, 100 =, 1000= (USD); Package / Case: 0201 (0603 metric); Tolerance: 1%; Power Rating: 50mW; Voltage Rating: -; Library Ref: Resistor; Resistor Type: Fixo; Size / Dimension: L x W x H; ComponentLink1Description: Mouser Link; ComponentLink2Description: Datasheet Link; Value: 22kohms
footprint R0201
pins: 1, 2

## 66.24.1345
designator R?, comment 4.7kohms
RESISTOR THICK FILM 4K7 OHMS 50mW 1% SMD 0201; Category: Thick Film Resistors - SMD; Price: 1=, 10=, 100 =, 1000= (USD); Package / Case: 0201 (0603 metric); Tolerance: 1%; Power Rating: 50mW; Voltage Rating: -; Library Ref: Resistor; Resistor Type: Fixo; Size / Dimension: L x W x H; ComponentLink1Description: Mouser Link; ComponentLink2Description: Datasheet Link; Value: 4.7kohms
footprint R0201
pins: 1, 2

## 66.24.1346
designator R?, comment 100kohms
RESISTOR THICK FILM 100K OHMS 50mW 1% SMD 0201; Category: Thick Film Resistors - SMD; Price: 1=, 10=, 100 =, 1000= (USD); Package / Case: 0201 (0603 metric); Tolerance: 1%; Power Rating: 50mW; Voltage Rating: -; Library Ref: Resistor; Resistor Type: Fixo; Size / Dimension: L x W x H; ComponentLink1Description: Mouser Link; ComponentLink2Description: Datasheet Link; Value: 100kohms
footprint R0201
pins: 1, 2

## 66.33.4700
designator R?, comment 470ohms
RESISTOR 470 OHMS 0,125W 5% SMD 0805; Power Rating: 0,125W; Category: Resistors - SMD; Price: 1=, 10=, 100 =, 1000= (USD); Package / Case: 0805 (2012 mm); Tolerance: 5%; Voltage Rating: -; Library Ref: Resistor; Resistor Type: Fixo; Size / Dimension: L x W x H; ComponentLink1Description: Mouser Link; ComponentLink2Description: Datasheet Link; Value: 470ohms
footprint R0805
pins: 1, 2

## CRCW020147K0FNED
designator R?, comment 47kohms
RESISTOR THICK FILM 47k OHMS 30V 50mW 1% SMD 0201; Manufacturer: Vishay; Part Number: CRCW020147K0FNED; Temperature Coefficient: 200 PPM / C; Library Control - Checked Footprint: Yes; Library Control - Last Project that Used: SIBB; Library Control - Person that Checked Footprint: Stéfany; Supplier 1: Mouser; Category: Thick Film Resistors - SMD; Price: 1=, 10=, 100 =, 1000= (USD); Package / Case: 0201 (0603 metric); Operating Temperature: -55C ~ +155 C; Tolerance: 1%; Power Rating: 50mW; Voltage Rating: 30V; Library Ref: Resistor; Resistor Type: Fixo; Size / Dimension: 0.6 mm L x 0.23 mm W x 0.23 mm H; Library Control - Checked Schematic: Yes; Library Control - Last Update: 13/07/2022 - 14:50; Library Control - Person that Checked Schematic: Stéfany; Library Control - Person that did the Last Update Footprint: Stéfany; ComponentLink1Description: Mouser Link; ComponentLink1URL: https://www.mouser.com/ProductDetail/Vishay-Dale/CRCW020147K0FNED?qs=HP0efwKA%252BANqDf8lOxuVjA%3D%3D; ComponentLink2Description: Datasheet Link; ComponentLink2URL: https://www.mouser.com/datasheet/2/427/crcw0201e3-1761851.pdf; Value: 47kohms
footprint R0201
pins: 1, 2

## RC0201FR-07100KL
designator R?, comment 100kohms
RESISTOR THICK FILM 100k OHMS 50mW 25V 1% SMD 0201; Manufacturer: YAGEO; Part Number: RC0201FR-07100KL; Temperature Coefficient: 200 PPM / C; Library Control - Checked Footprint: Yes; Library Control - Last Project that Used: SIBB; Library Control - Person that Checked Footprint: Stéfany; Supplier 1: Mouser; Category: Thick Film Resistors - SMD; Price: 1=, 10=, 100 =, 1000= (USD); Package / Case: 0201 (0603 metric); Operating Temperature: -55 C ~ +125 C; Tolerance: 1%; Power Rating: 50mW; Voltage Rating: 25V; Library Ref: Resistor; Resistor Type: Fixo; Size / Dimension: L x W x H; Library Control - Checked Schematic: Yes; Library Control - Last Update: 13/07/2022 - 13:05; Library Control - Person that Checked Schematic: Stéfany; Library Control - Person that did the Last Update Footprint: Stéfany; Library Control - Person that did the Last Update Schematic: Stéfany; ComponentLink1Description: Mouser Link; ComponentLink1URL: https://www.mouser.com/ProductDetail/YAGEO/RC0201FR-07100KL?qs=H0f9D%252BN4ztJ6ZeeQPytEvw%3D%3D; ComponentLink2Description: Datasheet Link; ComponentLink2URL: https://www.mouser.com/datasheet/2/447/PYu_RC_Group_51_RoHS_L_10-1664068.pdf; Value: 100kohms
footprint R0201
pins: 1, 2


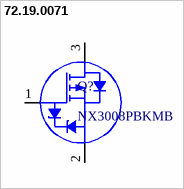
[diagram p7: symbol 72.19.0071]

## 72.19.0071
designator Q?, comment NX3008PBKMB
MOSFET P-CH SMD 30V SOT-883; Manufacturer: NXP USA Inc; FET Type: P-Channel; Rds On (Max) @ Id, Vgs: 4.1Ohm @ 200mA, 4.5V; Input Capacitance (Ciss) (Max) @Vds: 46 pF @ 15 V; Vgs(th) (Max) Id: 1.1V @ 250µA; Current - Continuous Drain (Id) @25°C: 300mA; Gate Charge (Qg) (Max) @ Vgs: 0.72 nC @ 4.5 V; Power Dissipation (Max): 2.7W; Vgs (Max): ±8V; Part Number: NX3008PBKMB; Price: 1=, 10=, 100= (USD); Package / Case: SOT-883; Operating Temperature: -55 C ~ 150 C; Drain to Source Voltage (Vds): 30V; Library Ref: Mosfet; Drive Voltage (Max Rds On, Min Rds On): -; Rise / Fall Time (Typ): -; ComponentLink1Description: Datasheet; ComponentLink1URL: https://fscdn.rohm.com/en/products/databook/datasheet/discrete/transistor/mosfet/rd3g07battl1-e.pdf; ComponentLink2Description: Mouser; ComponentLink2URL: https://br.mouser.com/ProductDetail/ROHM-Semiconductor/RD3G07BATTL1?qs=IS%252B4QmGtzzrhhJQumqWXMA%3D%3D
footprint SOT-883
pins: 1 G, 2 S, 3 D